# Altium footprint library PowerDI_123.PcbLib: 1 footprints
Each footprint in its own frame and in the unit in brackets; x right, y up, seen from the top. Pads: shape width x height; smd on the part's side, far side on the other; paste and mask are expansions set on the pad; w line width, h text height; cw(c..) or ccw(c..) is an arc to the next point about the centre after c.
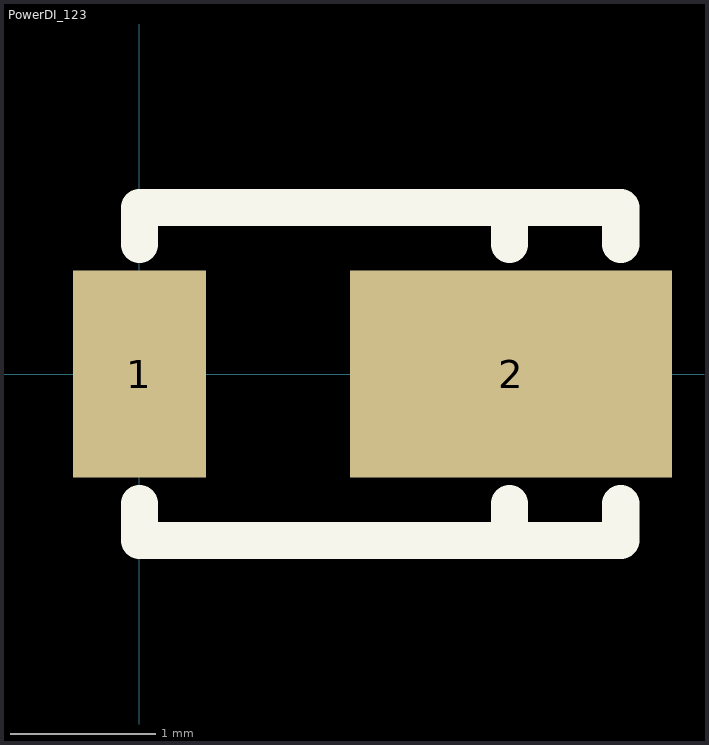
[diagram p0: the footprint, top view; thin cyan lines are the x and y axes]

## PowerDI_123 [mil]
pads (2):
  rect 36x56 smd: 1(0,0)
  rect 87x56 smd: 2(100.39,0)
Top Overlay:
  lines w10: 0,-35 0,-45 130,-45 ; 0,35 0,45 130,45 130,35 ; 100,-45 100,-35 ; 100,35 100,45 ; 130,-45 130,-35 130,-45
Mechanical 4:
  text ".065" at 130,0 h1
3D body: height 44.37, standoff -0.91, extent -14,-35 139.54,35.08